# EAGLE library part ENCODER (library pimoroni-mechanical)
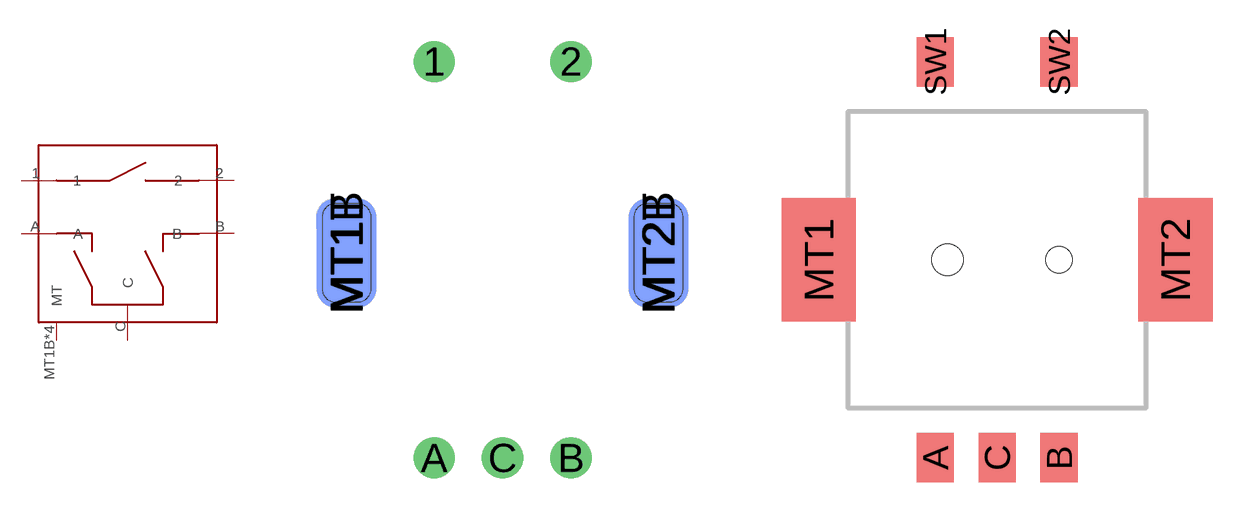
[diagram p3: symbol with the pads of PEC11R-4215K-S0024; footprints PEC11R-4215K-S0024, SMT_EC11]

Designator prefix ENCODER

## ENCODER  [PEC11R-4215K-S0024]
1  1
2  2
A  A
B  B
C  C
MT1B  MT
MT1T  MT
MT2B  MT
MT2T  MT

## ENCODERSMT_EC11  [SMT_EC11]
A  A
B  B
C  C
MT1  MT
MT2  MT
SW1  1
SW2  2

## Footprint PEC11R-4215K-S0024 (pad centres in mm)
drill 1: 1 -2.5,7; 2 2.5,7; A -2.5,-7.5; B 2.5,-7.5; C 0,-7.5
smd 2.2 x 4 bottom: MT1B -5.7,0; MT2B 5.7,0
smd 2.2 x 4: MT1T -5.7,0; MT2T 5.7,0

## Footprint SMT_EC11 (pad centres in mm)
smd 1.5 x 2: A -2.5,-8; B 2.5,-8; C 0,-8; SW1 -2.5,8; SW2 2.5,8
smd 3 x 5: MT1 -7.2,0; MT2 7.2,0
hole 1.05 at 2.5,0
hole 1.25 at -2,0